# Altium schematic symbol library WCAP-FTXX.SchLib: 109 symbols (part 1 of 3)
Pins are listed as number, name and electrical type; pins without a type are passive.

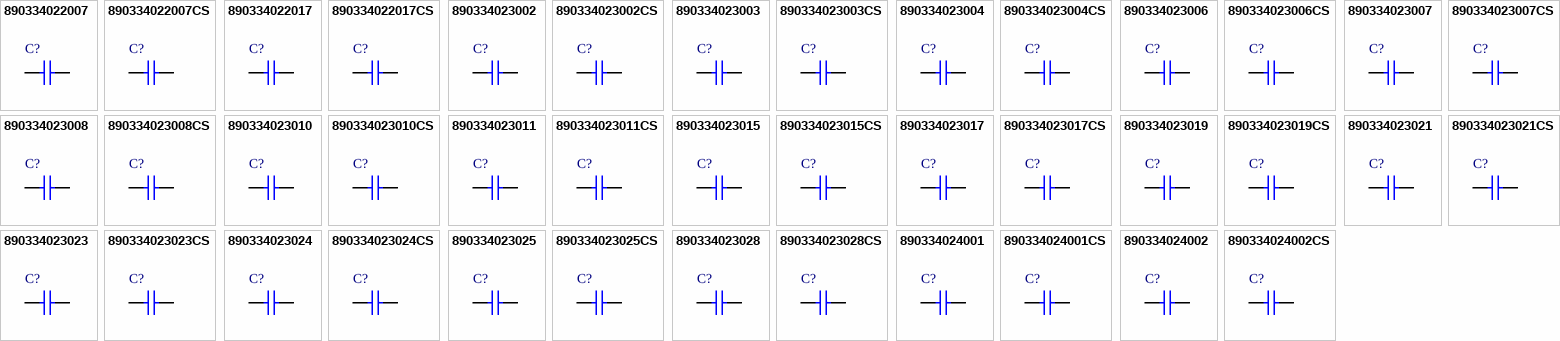
[diagram p0: symbols 890334022007 to 890334024002CS]

## 890334022007
designator C?, comment 15nF  (value not drawn)
WCAP-FTXX Film Capacitor, THT, 11mm x 6mm x 10mm, 15nF, 310V; Manufacturer Part Number: 890334022007; Manufacturer: Wurth Elektronik; Dissipation Factor @1kHz: 0.1%; Insulation Resistance: 30GΩ; Rate of Voltage Rise: 500V/µs; Safety Class: X2; Category: Film Capacitors; Match Code: WCAP-FTXX; ComponentLink1Description: Website Link; ComponentLink1URL: https://www.we-online.com/redexpert/article/890334022007?ad; ComponentLink2Description: Datasheet Link; ComponentLink2URL: https://www.we-online.com/redexpert/spec/890334022007?ad; Mount: Through Hole; Min Operating Temperature: -40°C; Max Operating Temperature: 105°C; Packaging: Bulk; Length: 11mm; Width: 6mm; Height: 10mm; Application: Across the mains; Capacitance: 15nF; Lead Pitch: 7.5mm; Rated Voltage (AC): 310V
footprint WCAP-FTXX_L11W6H10
simulation model 890334022007_15nF
pins: 1, 2

## 890334022007CS
designator C?, comment 15nF  (value not drawn)
WCAP-FTXX Film Capacitor, THT, 11mm x 6mm x 10mm, 15nF, 310V; Manufacturer Part Number: 890334022007CS; Manufacturer: Wurth Elektronik; Dissipation Factor @1kHz: 0.1%; Insulation Resistance: 30GΩ; Rate of Voltage Rise: 500V/µs; Safety Class: X2; Category: Film Capacitors; Match Code: WCAP-FTXX; ComponentLink1Description: Website Link; ComponentLink1URL: https://www.we-online.com/redexpert/article/890334022007CS?ad; ComponentLink2Description: Datasheet Link; ComponentLink2URL: https://www.we-online.com/redexpert/spec/890334022007CS?ad; Mount: Through Hole; Min Operating Temperature: -40°C; Max Operating Temperature: 105°C; Packaging: Bulk; Length: 11mm; Width: 6mm; Height: 10mm; Application: Across the mains; Capacitance: 15nF; Lead Pitch: 7.5mm; Rated Voltage (AC): 310V
footprint WCAP-FTXX_L11W6H10
simulation model 890334022007CS_15nF
pins: 1, 2

## 890334022017
designator C?, comment 68nF  (value not drawn)
WCAP-FTXX Film Capacitor, THT, 10mm x 6mm x 12mm, 68nF, 310V; Manufacturer Part Number: 890334022017; Manufacturer: Wurth Elektronik; Dissipation Factor @1kHz: 0.1%; Insulation Resistance: 30GΩ; Rate of Voltage Rise: 400V/µs; Safety Class: X2; Category: Film Capacitors; Match Code: WCAP-FTXX; ComponentLink1Description: Website Link; ComponentLink1URL: https://www.we-online.com/redexpert/article/890334022017?ad; ComponentLink2Description: Datasheet Link; ComponentLink2URL: https://www.we-online.com/redexpert/spec/890334022017?ad; Mount: Through Hole; Min Operating Temperature: -40°C; Max Operating Temperature: 105°C; Packaging: Bulk; Length: 10mm; Width: 6mm; Height: 12mm; Application: Across the mains; Capacitance: 68nF; Lead Pitch: 7.5mm; Rated Voltage (AC): 310V
footprint WCAP-FTXX_L10W6H12
simulation model 890334022017_68nF
pins: 1, 2

## 890334022017CS
designator C?, comment 68nF  (value not drawn)
WCAP-FTXX Film Capacitor, THT, 10mm x 6mm x 12mm, 68nF, 310V; Manufacturer Part Number: 890334022017CS; Manufacturer: Wurth Elektronik; Dissipation Factor @1kHz: 0.1%; Insulation Resistance: 30GΩ; Rate of Voltage Rise: 400V/µs; Safety Class: X2; Category: Film Capacitors; Match Code: WCAP-FTXX; ComponentLink1Description: Website Link; ComponentLink1URL: https://www.we-online.com/redexpert/article/890334022017CS?ad; ComponentLink2Description: Datasheet Link; ComponentLink2URL: https://www.we-online.com/redexpert/spec/890334022017CS?ad; Mount: Through Hole; Min Operating Temperature: -40°C; Max Operating Temperature: 105°C; Packaging: Bulk; Length: 10mm; Width: 6mm; Height: 12mm; Application: Across the mains; Capacitance: 68nF; Lead Pitch: 7.5mm; Rated Voltage (AC): 310V
footprint WCAP-FTXX_L10W6H12
simulation model 890334022017CS_68nF
pins: 1, 2

## 890334023002
designator C?, comment 5.6nF  (value not drawn)
WCAP-FTXX Film Capacitor, THT, 13mm x 5mm x 10mm, 5.6nF, 310V; Manufacturer Part Number: 890334023002; Manufacturer: Wurth Elektronik; Dissipation Factor @1kHz: 0.1%; Insulation Resistance: 30GΩ; Rate of Voltage Rise: 600V/µs; Safety Class: X2; Category: Film Capacitors; Match Code: WCAP-FTXX; ComponentLink1Description: Website Link; ComponentLink1URL: https://www.we-online.com/redexpert/article/890334023002?ad; ComponentLink2Description: Datasheet Link; ComponentLink2URL: https://www.we-online.com/redexpert/spec/890334023002?ad; Mount: Through Hole; Min Operating Temperature: -40°C; Max Operating Temperature: 105°C; Packaging: Bulk; Length: 13mm; Width: 5mm; Height: 10mm; Application: Across the mains; Capacitance: 5.6nF; Lead Pitch: 10mm; Rated Voltage (AC): 310V
footprint WCAP-FTXX_L13W5H10
simulation model 890334023002_5.6nF
pins: 1, 2

## 890334023002CS
designator C?, comment 5.6nF  (value not drawn)
WCAP-FTXX Film Capacitor, THT, 13mm x 5mm x 10mm, 5.6nF, 310V; Manufacturer Part Number: 890334023002CS; Manufacturer: Wurth Elektronik; Dissipation Factor @1kHz: 0.1%; Insulation Resistance: 30GΩ; Rate of Voltage Rise: 600V/µs; Safety Class: X2; Category: Film Capacitors; Match Code: WCAP-FTXX; ComponentLink1Description: Website Link; ComponentLink1URL: https://www.we-online.com/redexpert/article/890334023002CS?ad; ComponentLink2Description: Datasheet Link; ComponentLink2URL: https://www.we-online.com/redexpert/spec/890334023002CS?ad; Mount: Through Hole; Min Operating Temperature: -40°C; Max Operating Temperature: 105°C; Packaging: Bulk; Length: 13mm; Width: 5mm; Height: 10mm; Application: Across the mains; Capacitance: 5.6nF; Lead Pitch: 10mm; Rated Voltage (AC): 310V
footprint WCAP-FTXX_L13W5H10
simulation model 890334023002CS_5.6nF
pins: 1, 2

## 890334023003
designator C?, comment 6.8nF  (value not drawn)
WCAP-FTXX Film Capacitor, THT, 13mm x 5mm x 10mm, 6.8nF, 310V; Manufacturer Part Number: 890334023003; Manufacturer: Wurth Elektronik; Dissipation Factor @1kHz: 0.1%; Insulation Resistance: 30GΩ; Rate of Voltage Rise: 400V/µs; Safety Class: X2; Category: Film Capacitors; Match Code: WCAP-FTXX; ComponentLink1Description: Website Link; ComponentLink1URL: https://www.we-online.com/redexpert/article/890334023003?ad; ComponentLink2Description: Datasheet Link; ComponentLink2URL: https://www.we-online.com/redexpert/spec/890334023003?ad; Mount: Through Hole; Min Operating Temperature: -40°C; Max Operating Temperature: 105°C; Packaging: Bulk; Length: 13mm; Width: 5mm; Height: 10mm; Application: Across the mains; Capacitance: 6.8nF; Lead Pitch: 10mm; Rated Voltage (AC): 310V
footprint WCAP-FTXX_L13W5H10
simulation model 890334023003_6.8nF
pins: 1, 2

## 890334023003CS
designator C?, comment 6.8nF  (value not drawn)
WCAP-FTXX Film Capacitor, THT, 13mm x 5mm x 10mm, 6.8nF, 310V; Manufacturer Part Number: 890334023003CS; Manufacturer: Wurth Elektronik; Dissipation Factor @1kHz: 0.1%; Insulation Resistance: 30GΩ; Rate of Voltage Rise: 400V/µs; Safety Class: X2; Category: Film Capacitors; Match Code: WCAP-FTXX; ComponentLink1Description: Website Link; ComponentLink1URL: https://www.we-online.com/redexpert/article/890334023003CS?ad; ComponentLink2Description: Datasheet Link; ComponentLink2URL: https://www.we-online.com/redexpert/spec/890334023003CS?ad; Mount: Through Hole; Min Operating Temperature: -40°C; Max Operating Temperature: 105°C; Packaging: Bulk; Length: 13mm; Width: 5mm; Height: 10mm; Application: Across the mains; Capacitance: 6.8nF; Lead Pitch: 10mm; Rated Voltage (AC): 310V
footprint WCAP-FTXX_L13W5H10
simulation model 890334023003CS_6.8nF
pins: 1, 2

## 890334023004
designator C?, comment 8.2nF  (value not drawn)
WCAP-FTXX Film Capacitor, THT, 13mm x 5mm x 10mm, 8.2nF, 310V; Manufacturer Part Number: 890334023004; Manufacturer: Wurth Elektronik; Dissipation Factor @1kHz: 0.1%; Insulation Resistance: 30GΩ; Rate of Voltage Rise: 400V/µs; Safety Class: X2; Category: Film Capacitors; Match Code: WCAP-FTXX; ComponentLink1Description: Website Link; ComponentLink1URL: https://www.we-online.com/redexpert/article/890334023004?ad; ComponentLink2Description: Datasheet Link; ComponentLink2URL: https://www.we-online.com/redexpert/spec/890334023004?ad; Mount: Through Hole; Min Operating Temperature: -40°C; Max Operating Temperature: 105°C; Packaging: Bulk; Length: 13mm; Width: 5mm; Height: 10mm; Application: Across the mains; Capacitance: 8.2nF; Lead Pitch: 10mm; Rated Voltage (AC): 310V
footprint WCAP-FTXX_L13W5H10
simulation model 890334023004_8.2nF
pins: 1, 2

## 890334023004CS
designator C?, comment 8.2nF  (value not drawn)
WCAP-FTXX Film Capacitor, THT, 13mm x 5mm x 10mm, 8.2nF, 310V; Manufacturer Part Number: 890334023004CS; Manufacturer: Wurth Elektronik; Dissipation Factor @1kHz: 0.1%; Insulation Resistance: 30GΩ; Rate of Voltage Rise: 400V/µs; Safety Class: X2; Category: Film Capacitors; Match Code: WCAP-FTXX; ComponentLink1Description: Website Link; ComponentLink1URL: https://www.we-online.com/redexpert/article/890334023004CS?ad; ComponentLink2Description: Datasheet Link; ComponentLink2URL: https://www.we-online.com/redexpert/spec/890334023004CS?ad; Mount: Through Hole; Min Operating Temperature: -40°C; Max Operating Temperature: 105°C; Packaging: Bulk; Length: 13mm; Width: 5mm; Height: 10mm; Application: Across the mains; Capacitance: 8.2nF; Lead Pitch: 10mm; Rated Voltage (AC): 310V
footprint WCAP-FTXX_L13W5H10
simulation model 890334023004CS_8.2nF
pins: 1, 2

## 890334023006
designator C?, comment 10nF  (value not drawn)
WCAP-FTXX Film Capacitor, THT, 13mm x 5mm x 11mm, 10nF, 310V; Manufacturer Part Number: 890334023006; Manufacturer: Wurth Elektronik; Dissipation Factor @1kHz: 0.1%; Insulation Resistance: 30GΩ; Rate of Voltage Rise: 500V/µs; Safety Class: X2; Category: Film Capacitors; Match Code: WCAP-FTXX; ComponentLink1Description: Website Link; ComponentLink1URL: https://www.we-online.com/redexpert/article/890334023006?ad; ComponentLink2Description: Datasheet Link; ComponentLink2URL: https://www.we-online.com/redexpert/spec/890334023006?ad; Mount: Through Hole; Min Operating Temperature: -40°C; Max Operating Temperature: 105°C; Packaging: Bulk; Length: 13mm; Width: 5mm; Height: 11mm; Application: Across the mains; Capacitance: 10nF; Lead Pitch: 10mm; Rated Voltage (AC): 310V
footprint WCAP-FTXX_L13W5H11
simulation model 890334023006_10nF
pins: 1, 2

## 890334023006CS
designator C?, comment 10nF  (value not drawn)
WCAP-FTXX Film Capacitor, THT, 13mm x 5mm x 11mm, 10nF, 310V; Manufacturer Part Number: 890334023006CS; Manufacturer: Wurth Elektronik; Dissipation Factor @1kHz: 0.1%; Insulation Resistance: 30GΩ; Rate of Voltage Rise: 500V/µs; Safety Class: X2; Category: Film Capacitors; Match Code: WCAP-FTXX; ComponentLink1Description: Website Link; ComponentLink1URL: https://www.we-online.com/redexpert/article/890334023006CS?ad; ComponentLink2Description: Datasheet Link; ComponentLink2URL: https://www.we-online.com/redexpert/spec/890334023006CS?ad; Mount: Through Hole; Min Operating Temperature: -40°C; Max Operating Temperature: 105°C; Packaging: Bulk; Length: 13mm; Width: 5mm; Height: 11mm; Application: Across the mains; Capacitance: 10nF; Lead Pitch: 10mm; Rated Voltage (AC): 310V
footprint WCAP-FTXX_L13W5H11
simulation model 890334023006CS_10nF
pins: 1, 2

## 890334023007
designator C?, comment 12nF  (value not drawn)
WCAP-FTXX Film Capacitor, THT, 13mm x 5mm x 11mm, 12nF, 310V; Manufacturer Part Number: 890334023007; Manufacturer: Wurth Elektronik; Dissipation Factor @1kHz: 0.1%; Insulation Resistance: 30GΩ; Rate of Voltage Rise: 300V/µs; Safety Class: X2; Category: Film Capacitors; Match Code: WCAP-FTXX; ComponentLink1Description: Website Link; ComponentLink1URL: https://www.we-online.com/redexpert/article/890334023007?ad; ComponentLink2Description: Datasheet Link; ComponentLink2URL: https://www.we-online.com/redexpert/spec/890334023007?ad; Mount: Through Hole; Min Operating Temperature: -40°C; Max Operating Temperature: 105°C; Packaging: Bulk; Length: 13mm; Width: 5mm; Height: 11mm; Application: Across the mains; Capacitance: 12nF; Lead Pitch: 10mm; Rated Voltage (AC): 310V
footprint WCAP-FTXX_L13W5H11
simulation model 890334023007_12nF
pins: 1, 2

## 890334023007CS
designator C?, comment 12nF  (value not drawn)
WCAP-FTXX Film Capacitor, THT, 13mm x 5mm x 11mm, 12nF, 310V; Manufacturer Part Number: 890334023007CS; Manufacturer: Wurth Elektronik; Dissipation Factor @1kHz: 0.1%; Insulation Resistance: 30GΩ; Rate of Voltage Rise: 300V/µs; Safety Class: X2; Category: Film Capacitors; Match Code: WCAP-FTXX; ComponentLink1Description: Website Link; ComponentLink1URL: https://www.we-online.com/redexpert/article/890334023007CS?ad; ComponentLink2Description: Datasheet Link; ComponentLink2URL: https://www.we-online.com/redexpert/spec/890334023007CS?ad; Mount: Through Hole; Min Operating Temperature: -40°C; Max Operating Temperature: 105°C; Packaging: Bulk; Length: 13mm; Width: 5mm; Height: 11mm; Application: Across the mains; Capacitance: 12nF; Lead Pitch: 10mm; Rated Voltage (AC): 310V
footprint WCAP-FTXX_L13W5H11
simulation model 890334023007CS_12nF
pins: 1, 2

## 890334023008
designator C?, comment 15nF  (value not drawn)
WCAP-FTXX Film Capacitor, THT, 13mm x 4.5mm x 9.5mm, 15nF, 310V; Manufacturer Part Number: 890334023008; Manufacturer: Wurth Elektronik; Dissipation Factor @1kHz: 0.1%; Insulation Resistance: 30GΩ; Rate of Voltage Rise: 400V/µs; Safety Class: X2; Category: Film Capacitors; Match Code: WCAP-FTXX; ComponentLink1Description: Website Link; ComponentLink1URL: https://www.we-online.com/redexpert/article/890334023008?ad; ComponentLink2Description: Datasheet Link; ComponentLink2URL: https://www.we-online.com/redexpert/spec/890334023008?ad; Mount: Through Hole; Min Operating Temperature: -40°C; Max Operating Temperature: 105°C; Packaging: Bulk; Length: 13mm; Width: 4.5mm; Height: 9.5mm; Application: Across the mains; Capacitance: 15nF; Lead Pitch: 10mm; Rated Voltage (AC): 310V
footprint WCAP-FTXX_L13W4.5H9.5
simulation model 890334023008_15nF
pins: 1, 2

## 890334023008CS
designator C?, comment 15nF  (value not drawn)
WCAP-FTXX Film Capacitor, THT, 13mm x 4.5mm x 9.5mm, 15nF, 310V; Manufacturer Part Number: 890334023008CS; Manufacturer: Wurth Elektronik; Dissipation Factor @1kHz: 0.1%; Insulation Resistance: 30GΩ; Rate of Voltage Rise: 400V/µs; Safety Class: X2; Category: Film Capacitors; Match Code: WCAP-FTXX; ComponentLink1Description: Website Link; ComponentLink1URL: https://www.we-online.com/redexpert/article/890334023008CS?ad; ComponentLink2Description: Datasheet Link; ComponentLink2URL: https://www.we-online.com/redexpert/spec/890334023008CS?ad; Mount: Through Hole; Min Operating Temperature: -40°C; Max Operating Temperature: 105°C; Packaging: Bulk; Length: 13mm; Width: 4.5mm; Height: 9.5mm; Application: Across the mains; Capacitance: 15nF; Lead Pitch: 10mm; Rated Voltage (AC): 310V
footprint WCAP-FTXX_L13W4.5H9.5
simulation model 890334023008CS_15nF
pins: 1, 2

## 890334023010
designator C?, comment 18nF  (value not drawn)
WCAP-FTXX Film Capacitor, THT, 13mm x 5mm x 11mm, 18nF, 310V; Manufacturer Part Number: 890334023010; Manufacturer: Wurth Elektronik; Dissipation Factor @1kHz: 0.1%; Insulation Resistance: 30GΩ; Rate of Voltage Rise: 400V/µs; Safety Class: X2; Category: Film Capacitors; Match Code: WCAP-FTXX; ComponentLink1Description: Website Link; ComponentLink1URL: https://www.we-online.com/redexpert/article/890334023010?ad; ComponentLink2Description: Datasheet Link; ComponentLink2URL: https://www.we-online.com/redexpert/spec/890334023010?ad; Mount: Through Hole; Min Operating Temperature: -40°C; Max Operating Temperature: 105°C; Packaging: Bulk; Length: 13mm; Width: 5mm; Height: 11mm; Application: Across the mains; Capacitance: 18nF; Lead Pitch: 10mm; Rated Voltage (AC): 310V
footprint WCAP-FTXX_L13W5H11
simulation model 890334023010_18nF
pins: 1, 2

## 890334023010CS
designator C?, comment 18nF  (value not drawn)
WCAP-FTXX Film Capacitor, THT, 13mm x 5mm x 11mm, 18nF, 310V; Manufacturer Part Number: 890334023010CS; Manufacturer: Wurth Elektronik; Dissipation Factor @1kHz: 0.1%; Insulation Resistance: 30GΩ; Rate of Voltage Rise: 400V/µs; Safety Class: X2; Category: Film Capacitors; Match Code: WCAP-FTXX; ComponentLink1Description: Website Link; ComponentLink1URL: https://www.we-online.com/redexpert/article/890334023010CS?ad; ComponentLink2Description: Datasheet Link; ComponentLink2URL: https://www.we-online.com/redexpert/spec/890334023010CS?ad; Mount: Through Hole; Min Operating Temperature: -40°C; Max Operating Temperature: 105°C; Packaging: Bulk; Length: 13mm; Width: 5mm; Height: 11mm; Application: Across the mains; Capacitance: 18nF; Lead Pitch: 10mm; Rated Voltage (AC): 310V
footprint WCAP-FTXX_L13W5H11
simulation model 890334023010CS_18nF
pins: 1, 2

## 890334023011
designator C?, comment 22nF  (value not drawn)
WCAP-FTXX Film Capacitor, THT, 13mm x 4.5mm x 9.5mm, 22nF, 310V; Manufacturer Part Number: 890334023011; Manufacturer: Wurth Elektronik; Dissipation Factor @1kHz: 0.1%; Insulation Resistance: 30GΩ; Rate of Voltage Rise: 400V/µs; Safety Class: X2; Category: Film Capacitors; Match Code: WCAP-FTXX; ComponentLink1Description: Website Link; ComponentLink1URL: https://www.we-online.com/redexpert/article/890334023011?ad; ComponentLink2Description: Datasheet Link; ComponentLink2URL: https://www.we-online.com/redexpert/spec/890334023011?ad; Mount: Through Hole; Min Operating Temperature: -40°C; Max Operating Temperature: 105°C; Packaging: Bulk; Length: 13mm; Width: 4.5mm; Height: 9.5mm; Application: Across the mains; Capacitance: 22nF; Lead Pitch: 10mm; Rated Voltage (AC): 310V
footprint WCAP-FTXX_L13W4.5H9.5
simulation model 890334023011_22nF
pins: 1, 2

## 890334023011CS
designator C?, comment 22nF  (value not drawn)
WCAP-FTXX Film Capacitor, THT, 13mm x 4.5mm x 9.5mm, 22nF, 310V; Manufacturer Part Number: 890334023011CS; Manufacturer: Wurth Elektronik; Dissipation Factor @1kHz: 0.1%; Insulation Resistance: 30GΩ; Rate of Voltage Rise: 400V/µs; Safety Class: X2; Category: Film Capacitors; Match Code: WCAP-FTXX; ComponentLink1Description: Website Link; ComponentLink1URL: https://www.we-online.com/redexpert/article/890334023011CS?ad; ComponentLink2Description: Datasheet Link; ComponentLink2URL: https://www.we-online.com/redexpert/spec/890334023011CS?ad; Mount: Through Hole; Min Operating Temperature: -40°C; Max Operating Temperature: 105°C; Packaging: Bulk; Length: 13mm; Width: 4.5mm; Height: 9.5mm; Application: Across the mains; Capacitance: 22nF; Lead Pitch: 10mm; Rated Voltage (AC): 310V
footprint WCAP-FTXX_L13W4.5H9.5
simulation model 890334023011CS_22nF
pins: 1, 2

## 890334023015
designator C?, comment 47nF  (value not drawn)
WCAP-FTXX Film Capacitor, THT, 13mm x 4.5mm x 9.5mm, 47nF, 310V; Manufacturer Part Number: 890334023015; Manufacturer: Wurth Elektronik; Dissipation Factor @1kHz: 0.1%; Insulation Resistance: 30GΩ; Rate of Voltage Rise: 300V/µs; Safety Class: X2; Category: Film Capacitors; Match Code: WCAP-FTXX; ComponentLink1Description: Website Link; ComponentLink1URL: https://www.we-online.com/redexpert/article/890334023015?ad; ComponentLink2Description: Datasheet Link; ComponentLink2URL: https://www.we-online.com/redexpert/spec/890334023015?ad; Mount: Through Hole; Min Operating Temperature: -40°C; Max Operating Temperature: 105°C; Packaging: Bulk; Length: 13mm; Width: 4.5mm; Height: 9.5mm; Application: Across the mains; Capacitance: 47nF; Lead Pitch: 10mm; Rated Voltage (AC): 310V
footprint WCAP-FTXX_L13W4.5H9.5
simulation model 890334023015_47nF
pins: 1, 2

## 890334023015CS
designator C?, comment 47nF  (value not drawn)
WCAP-FTXX Film Capacitor, THT, 13mm x 4.5mm x 9.5mm, 47nF, 310V; Manufacturer Part Number: 890334023015CS; Manufacturer: Wurth Elektronik; Dissipation Factor @1kHz: 0.1%; Insulation Resistance: 30GΩ; Rate of Voltage Rise: 300V/µs; Safety Class: X2; Category: Film Capacitors; Match Code: WCAP-FTXX; ComponentLink1Description: Website Link; ComponentLink1URL: https://www.we-online.com/redexpert/article/890334023015CS?ad; ComponentLink2Description: Datasheet Link; ComponentLink2URL: https://www.we-online.com/redexpert/spec/890334023015CS?ad; Mount: Through Hole; Min Operating Temperature: -40°C; Max Operating Temperature: 105°C; Packaging: Bulk; Length: 13mm; Width: 4.5mm; Height: 9.5mm; Application: Across the mains; Capacitance: 47nF; Lead Pitch: 10mm; Rated Voltage (AC): 310V
footprint WCAP-FTXX_L13W4.5H9.5
simulation model 890334023015CS_47nF
pins: 1, 2

## 890334023017
designator C?, comment 56nF  (value not drawn)
WCAP-FTXX Film Capacitor, THT, 13mm x 5mm x 10mm, 56nF, 310V; Manufacturer Part Number: 890334023017; Manufacturer: Wurth Elektronik; Dissipation Factor @1kHz: 0.1%; Insulation Resistance: 30GΩ; Rate of Voltage Rise: 300V/µs; Safety Class: X2; Category: Film Capacitors; Match Code: WCAP-FTXX; ComponentLink1Description: Website Link; ComponentLink1URL: https://www.we-online.com/redexpert/article/890334023017?ad; ComponentLink2Description: Datasheet Link; ComponentLink2URL: https://www.we-online.com/redexpert/spec/890334023017?ad; Mount: Through Hole; Min Operating Temperature: -40°C; Max Operating Temperature: 105°C; Packaging: Bulk; Length: 13mm; Width: 5mm; Height: 10mm; Application: Across the mains; Capacitance: 56nF; Lead Pitch: 10mm; Rated Voltage (AC): 310V
footprint WCAP-FTXX_L13W5H10
simulation model 890334023017_56nF
pins: 1, 2

## 890334023017CS
designator C?, comment 56nF  (value not drawn)
WCAP-FTXX Film Capacitor, THT, 13mm x 5mm x 10mm, 56nF, 310V; Manufacturer Part Number: 890334023017CS; Manufacturer: Wurth Elektronik; Dissipation Factor @1kHz: 0.1%; Insulation Resistance: 30GΩ; Rate of Voltage Rise: 300V/µs; Safety Class: X2; Category: Film Capacitors; Match Code: WCAP-FTXX; ComponentLink1Description: Website Link; ComponentLink1URL: https://www.we-online.com/redexpert/article/890334023017CS?ad; ComponentLink2Description: Datasheet Link; ComponentLink2URL: https://www.we-online.com/redexpert/spec/890334023017CS?ad; Mount: Through Hole; Min Operating Temperature: -40°C; Max Operating Temperature: 105°C; Packaging: Bulk; Length: 13mm; Width: 5mm; Height: 10mm; Application: Across the mains; Capacitance: 56nF; Lead Pitch: 10mm; Rated Voltage (AC): 310V
footprint WCAP-FTXX_L13W5H10
simulation model 890334023017CS_56nF
pins: 1, 2

## 890334023019
designator C?, comment 68nF  (value not drawn)
WCAP-FTXX Film Capacitor, THT, 13mm x 7mm x 13mm, 68nF, 310V; Manufacturer Part Number: 890334023019; Manufacturer: Wurth Elektronik; Dissipation Factor @1kHz: 0.1%; Insulation Resistance: 30GΩ; Rate of Voltage Rise: 400V/µs; Safety Class: X2; Category: Film Capacitors; Match Code: WCAP-FTXX; ComponentLink1Description: Website Link; ComponentLink1URL: https://www.we-online.com/redexpert/article/890334023019?ad; ComponentLink2Description: Datasheet Link; ComponentLink2URL: https://www.we-online.com/redexpert/spec/890334023019?ad; Mount: Through Hole; Min Operating Temperature: -40°C; Max Operating Temperature: 105°C; Packaging: Bulk; Length: 13mm; Width: 7mm; Height: 13mm; Application: Across the mains; Capacitance: 68nF; Lead Pitch: 10mm; Rated Voltage (AC): 310V
footprint WCAP-FTXX_L13W7H13
simulation model 890334023019_68nF
pins: 1, 2

## 890334023019CS
designator C?, comment 68nF  (value not drawn)
WCAP-FTXX Film Capacitor, THT, 13mm x 7mm x 13mm, 68nF, 310V; Manufacturer Part Number: 890334023019CS; Manufacturer: Wurth Elektronik; Dissipation Factor @1kHz: 0.1%; Insulation Resistance: 30GΩ; Rate of Voltage Rise: 400V/µs; Safety Class: X2; Category: Film Capacitors; Match Code: WCAP-FTXX; ComponentLink1Description: Website Link; ComponentLink1URL: https://www.we-online.com/redexpert/article/890334023019CS?ad; ComponentLink2Description: Datasheet Link; ComponentLink2URL: https://www.we-online.com/redexpert/spec/890334023019CS?ad; Mount: Through Hole; Min Operating Temperature: -40°C; Max Operating Temperature: 105°C; Packaging: Bulk; Length: 13mm; Width: 7mm; Height: 13mm; Application: Across the mains; Capacitance: 68nF; Lead Pitch: 10mm; Rated Voltage (AC): 310V
footprint WCAP-FTXX_L13W7H13
simulation model 890334023019CS_68nF
pins: 1, 2

## 890334023021
designator C?, comment 82nF  (value not drawn)
WCAP-FTXX Film Capacitor, THT, 13mm x 7mm x 13mm, 82nF, 310V; Manufacturer Part Number: 890334023021; Manufacturer: Wurth Elektronik; Dissipation Factor @1kHz: 0.1%; Insulation Resistance: 30GΩ; Rate of Voltage Rise: 400V/µs; Safety Class: X2; Category: Film Capacitors; Match Code: WCAP-FTXX; ComponentLink1Description: Website Link; ComponentLink1URL: https://www.we-online.com/redexpert/article/890334023021?ad; ComponentLink2Description: Datasheet Link; ComponentLink2URL: https://www.we-online.com/redexpert/spec/890334023021?ad; Mount: Through Hole; Min Operating Temperature: -40°C; Max Operating Temperature: 105°C; Packaging: Bulk; Length: 13mm; Width: 7mm; Height: 13mm; Application: Across the mains; Capacitance: 82nF; Lead Pitch: 10mm; Rated Voltage (AC): 310V
footprint WCAP-FTXX_L13W7H13
simulation model 890334023021_82nF
pins: 1, 2

## 890334023021CS
designator C?, comment 82nF  (value not drawn)
WCAP-FTXX Film Capacitor, THT, 13mm x 7mm x 13mm, 82nF, 310V; Manufacturer Part Number: 890334023021CS; Manufacturer: Wurth Elektronik; Dissipation Factor @1kHz: 0.1%; Insulation Resistance: 30GΩ; Rate of Voltage Rise: 400V/µs; Safety Class: X2; Category: Film Capacitors; Match Code: WCAP-FTXX; ComponentLink1Description: Website Link; ComponentLink1URL: https://www.we-online.com/redexpert/article/890334023021CS?ad; ComponentLink2Description: Datasheet Link; ComponentLink2URL: https://www.we-online.com/redexpert/spec/890334023021CS?ad; Mount: Through Hole; Min Operating Temperature: -40°C; Max Operating Temperature: 105°C; Packaging: Bulk; Length: 13mm; Width: 7mm; Height: 13mm; Application: Across the mains; Capacitance: 82nF; Lead Pitch: 10mm; Rated Voltage (AC): 310V
footprint WCAP-FTXX_L13W7H13
simulation model 890334023021CS_82nF
pins: 1, 2

## 890334023023
designator C?, comment 100nF  (value not drawn)
WCAP-FTXX Film Capacitor, THT, 13mm x 7mm x 13mm, 100nF, 310V; Manufacturer Part Number: 890334023023; Manufacturer: Wurth Elektronik; Dissipation Factor @1kHz: 0.1%; Insulation Resistance: 30GΩ; Rate of Voltage Rise: 300V/µs; Safety Class: X2; Category: Film Capacitors; Match Code: WCAP-FTXX; ComponentLink1Description: Website Link; ComponentLink1URL: https://www.we-online.com/redexpert/article/890334023023?ad; ComponentLink2Description: Datasheet Link; ComponentLink2URL: https://www.we-online.com/redexpert/spec/890334023023?ad; Mount: Through Hole; Min Operating Temperature: -40°C; Max Operating Temperature: 105°C; Packaging: Bulk; Length: 13mm; Width: 7mm; Height: 13mm; Application: Across the mains; Capacitance: 100nF; Lead Pitch: 10mm; Rated Voltage (AC): 310V
footprint WCAP-FTXX_L13W7H13
simulation model 890334023023_100nF
pins: 1, 2

## 890334023023CS
designator C?, comment 100nF  (value not drawn)
WCAP-FTXX Film Capacitor, THT, 13mm x 7mm x 13mm, 100nF, 310V; Manufacturer Part Number: 890334023023CS; Manufacturer: Wurth Elektronik; Dissipation Factor @1kHz: 0.1%; Insulation Resistance: 30GΩ; Rate of Voltage Rise: 300V/µs; Safety Class: X2; Category: Film Capacitors; Match Code: WCAP-FTXX; ComponentLink1Description: Website Link; ComponentLink1URL: https://www.we-online.com/redexpert/article/890334023023CS?ad; ComponentLink2Description: Datasheet Link; ComponentLink2URL: https://www.we-online.com/redexpert/spec/890334023023CS?ad; Mount: Through Hole; Min Operating Temperature: -40°C; Max Operating Temperature: 105°C; Packaging: Bulk; Length: 13mm; Width: 7mm; Height: 13mm; Application: Across the mains; Capacitance: 100nF; Lead Pitch: 10mm; Rated Voltage (AC): 310V
footprint WCAP-FTXX_L13W7H13
simulation model 890334023023CS_100nF
pins: 1, 2

## 890334023024
designator C?, comment 120nF  (value not drawn)
WCAP-FTXX Film Capacitor, THT, 13mm x 7mm x 13mm, 120nF, 310V; Manufacturer Part Number: 890334023024; Manufacturer: Wurth Elektronik; Dissipation Factor @1kHz: 0.1%; Insulation Resistance: 30GΩ; Rate of Voltage Rise: 400V/µs; Safety Class: X2; Category: Film Capacitors; Match Code: WCAP-FTXX; ComponentLink1Description: Website Link; ComponentLink1URL: https://www.we-online.com/redexpert/article/890334023024?ad; ComponentLink2Description: Datasheet Link; ComponentLink2URL: https://www.we-online.com/redexpert/spec/890334023024?ad; Mount: Through Hole; Min Operating Temperature: -40°C; Max Operating Temperature: 105°C; Packaging: Bulk; Length: 13mm; Width: 7mm; Height: 13mm; Application: Across the mains; Capacitance: 120nF; Lead Pitch: 10mm; Rated Voltage (AC): 310V
footprint WCAP-FTXX_L13W7H13
simulation model 890334023024_120nF
pins: 1, 2

## 890334023024CS
designator C?, comment 120nF  (value not drawn)
WCAP-FTXX Film Capacitor, THT, 13mm x 7mm x 13mm, 120nF, 310V; Manufacturer Part Number: 890334023024CS; Manufacturer: Wurth Elektronik; Dissipation Factor @1kHz: 0.1%; Insulation Resistance: 30GΩ; Rate of Voltage Rise: 400V/µs; Safety Class: X2; Category: Film Capacitors; Match Code: WCAP-FTXX; ComponentLink1Description: Website Link; ComponentLink1URL: https://www.we-online.com/redexpert/article/890334023024CS?ad; ComponentLink2Description: Datasheet Link; ComponentLink2URL: https://www.we-online.com/redexpert/spec/890334023024CS?ad; Mount: Through Hole; Min Operating Temperature: -40°C; Max Operating Temperature: 105°C; Packaging: Bulk; Length: 13mm; Width: 7mm; Height: 13mm; Application: Across the mains; Capacitance: 120nF; Lead Pitch: 10mm; Rated Voltage (AC): 310V
footprint WCAP-FTXX_L13W7H13
simulation model 890334023024CS_120nF
pins: 1, 2

## 890334023025
designator C?, comment 150nF  (value not drawn)
WCAP-FTXX Film Capacitor, THT, 13mm x 7mm x 12mm, 150nF, 310V; Manufacturer Part Number: 890334023025; Manufacturer: Wurth Elektronik; Dissipation Factor @1kHz: 0.1%; Insulation Resistance: 30GΩ; Rate of Voltage Rise: 300V/µs; Safety Class: X2; Category: Film Capacitors; Match Code: WCAP-FTXX; ComponentLink1Description: Website Link; ComponentLink1URL: https://www.we-online.com/redexpert/article/890334023025?ad; ComponentLink2Description: Datasheet Link; ComponentLink2URL: https://www.we-online.com/redexpert/spec/890334023025?ad; Mount: Through Hole; Min Operating Temperature: -40°C; Max Operating Temperature: 105°C; Packaging: Bulk; Length: 13mm; Width: 7mm; Height: 12mm; Application: Across the mains; Capacitance: 150nF; Lead Pitch: 10mm; Rated Voltage (AC): 310V
footprint WCAP-FTXX_L13W7H12
simulation model 890334023025_150nF
pins: 1, 2

## 890334023025CS
designator C?, comment 150nF  (value not drawn)
WCAP-FTXX Film Capacitor, THT, 13mm x 7mm x 12mm, 150nF, 310V; Manufacturer Part Number: 890334023025CS; Manufacturer: Wurth Elektronik; Dissipation Factor @1kHz: 0.1%; Insulation Resistance: 30GΩ; Rate of Voltage Rise: 300V/µs; Safety Class: X2; Category: Film Capacitors; Match Code: WCAP-FTXX; ComponentLink1Description: Website Link; ComponentLink1URL: https://www.we-online.com/redexpert/article/890334023025CS?ad; ComponentLink2Description: Datasheet Link; ComponentLink2URL: https://www.we-online.com/redexpert/spec/890334023025CS?ad; Mount: Through Hole; Min Operating Temperature: -40°C; Max Operating Temperature: 105°C; Packaging: Bulk; Length: 13mm; Width: 7mm; Height: 12mm; Application: Across the mains; Capacitance: 150nF; Lead Pitch: 10mm; Rated Voltage (AC): 310V
footprint WCAP-FTXX_L13W7H12
simulation model 890334023025CS_150nF
pins: 1, 2

## 890334023028
designator C?, comment 220nF  (value not drawn)
WCAP-FTXX Film Capacitor, THT, 13mm x 8mm x 14mm, 220nF, 310V; Manufacturer Part Number: 890334023028; Manufacturer: Wurth Elektronik; Dissipation Factor @1kHz: 0.1%; Insulation Resistance: 30GΩ; Rate of Voltage Rise: 300V/µs; Safety Class: X2; Category: Film Capacitors; Match Code: WCAP-FTXX; ComponentLink1Description: Website Link; ComponentLink1URL: https://www.we-online.com/redexpert/article/890334023028?ad; ComponentLink2Description: Datasheet Link; ComponentLink2URL: https://www.we-online.com/redexpert/spec/890334023028?ad; Mount: Through Hole; Min Operating Temperature: -40°C; Max Operating Temperature: 105°C; Packaging: Bulk; Length: 13mm; Width: 8mm; Height: 14mm; Application: Across the mains; Capacitance: 220nF; Lead Pitch: 10mm; Rated Voltage (AC): 310V
footprint WCAP-FTXX_L13W8H14
simulation model 890334023028_220nF
pins: 1, 2

## 890334023028CS
designator C?, comment 220nF  (value not drawn)
WCAP-FTXX Film Capacitor, THT, 13mm x 8mm x 14mm, 220nF, 310V; Manufacturer Part Number: 890334023028CS; Manufacturer: Wurth Elektronik; Dissipation Factor @1kHz: 0.1%; Insulation Resistance: 30GΩ; Rate of Voltage Rise: 300V/µs; Safety Class: X2; Category: Film Capacitors; Match Code: WCAP-FTXX; ComponentLink1Description: Website Link; ComponentLink1URL: https://www.we-online.com/redexpert/article/890334023028CS?ad; ComponentLink2Description: Datasheet Link; ComponentLink2URL: https://www.we-online.com/redexpert/spec/890334023028CS?ad; Mount: Through Hole; Min Operating Temperature: -40°C; Max Operating Temperature: 105°C; Packaging: Bulk; Length: 13mm; Width: 8mm; Height: 14mm; Application: Across the mains; Capacitance: 220nF; Lead Pitch: 10mm; Rated Voltage (AC): 310V
footprint WCAP-FTXX_L13W8H14
simulation model 890334023028CS_220nF
pins: 1, 2

## 890334024001
designator C?, comment 150nF  (value not drawn)
WCAP-FTXX Film Capacitor, THT, 15mm x 6mm x 11.5mm, 150nF, 310V; Manufacturer Part Number: 890334024001; Manufacturer: Wurth Elektronik; Dissipation Factor @1kHz: 0.1%; Insulation Resistance: 30GΩ; Rate of Voltage Rise: 210V/µs; Safety Class: X2; Category: Film Capacitors; Match Code: WCAP-FTXX; ComponentLink1Description: Website Link; ComponentLink1URL: https://www.we-online.com/redexpert/article/890334024001?ad; ComponentLink2Description: Datasheet Link; ComponentLink2URL: https://www.we-online.com/redexpert/spec/890334024001?ad; Mount: Through Hole; Min Operating Temperature: -40°C; Max Operating Temperature: 105°C; Packaging: Bulk; Length: 15mm; Width: 6mm; Height: 11.5mm; Application: Across the mains; Capacitance: 150nF; Lead Pitch: 12.5mm; Rated Voltage (AC): 310V
footprint WCAP-FTXX_L15W6H11.5
simulation model 890334024001_150nF
pins: 1, 2

## 890334024001CS
designator C?, comment 150nF  (value not drawn)
WCAP-FTXX Film Capacitor, THT, 15mm x 6mm x 11.5mm, 150nF, 310V; Manufacturer Part Number: 890334024001CS; Manufacturer: Wurth Elektronik; Dissipation Factor @1kHz: 0.1%; Insulation Resistance: 30GΩ; Rate of Voltage Rise: 210V/µs; Safety Class: X2; Category: Film Capacitors; Match Code: WCAP-FTXX; ComponentLink1Description: Website Link; ComponentLink1URL: https://www.we-online.com/redexpert/article/890334024001CS?ad; ComponentLink2Description: Datasheet Link; ComponentLink2URL: https://www.we-online.com/redexpert/spec/890334024001CS?ad; Mount: Through Hole; Min Operating Temperature: -40°C; Max Operating Temperature: 105°C; Packaging: Bulk; Length: 15mm; Width: 6mm; Height: 11.5mm; Application: Across the mains; Capacitance: 150nF; Lead Pitch: 12.5mm; Rated Voltage (AC): 310V
footprint WCAP-FTXX_L15W6H11.5
simulation model 890334024001CS_150nF
pins: 1, 2

## 890334024002
designator C?, comment 220nF  (value not drawn)
WCAP-FTXX Film Capacitor, THT, 15mm x 7mm x 12.5mm, 220nF, 310V; Manufacturer Part Number: 890334024002; Manufacturer: Wurth Elektronik; Dissipation Factor @1kHz: 0.1%; Insulation Resistance: 30GΩ; Rate of Voltage Rise: 240V/µs; Safety Class: X2; Category: Film Capacitors; Match Code: WCAP-FTXX; ComponentLink1Description: Website Link; ComponentLink1URL: https://www.we-online.com/redexpert/article/890334024002?ad; ComponentLink2Description: Datasheet Link; ComponentLink2URL: https://www.we-online.com/redexpert/spec/890334024002?ad; Mount: Through Hole; Min Operating Temperature: -40°C; Max Operating Temperature: 105°C; Packaging: Bulk; Length: 15mm; Width: 7mm; Height: 12.5mm; Application: Across the mains; Capacitance: 220nF; Lead Pitch: 12.5mm; Rated Voltage (AC): 310V
footprint WCAP-FTXX_L15W7H12.5
simulation model 890334024002_220nF
pins: 1, 2

## 890334024002CS
designator C?, comment 220nF  (value not drawn)
WCAP-FTXX Film Capacitor, THT, 15mm x 7mm x 12.5mm, 220nF, 310V; Manufacturer Part Number: 890334024002CS; Manufacturer: Wurth Elektronik; Dissipation Factor @1kHz: 0.1%; Insulation Resistance: 30GΩ; Rate of Voltage Rise: 240V/µs; Safety Class: X2; Category: Film Capacitors; Match Code: WCAP-FTXX; ComponentLink1Description: Website Link; ComponentLink1URL: https://www.we-online.com/redexpert/article/890334024002CS?ad; ComponentLink2Description: Datasheet Link; ComponentLink2URL: https://www.we-online.com/redexpert/spec/890334024002CS?ad; Mount: Through Hole; Min Operating Temperature: -40°C; Max Operating Temperature: 105°C; Packaging: Bulk; Length: 15mm; Width: 7mm; Height: 12.5mm; Application: Across the mains; Capacitance: 220nF; Lead Pitch: 12.5mm; Rated Voltage (AC): 310V
footprint WCAP-FTXX_L15W7H12.5
simulation model 890334024002CS_220nF
pins: 1, 2

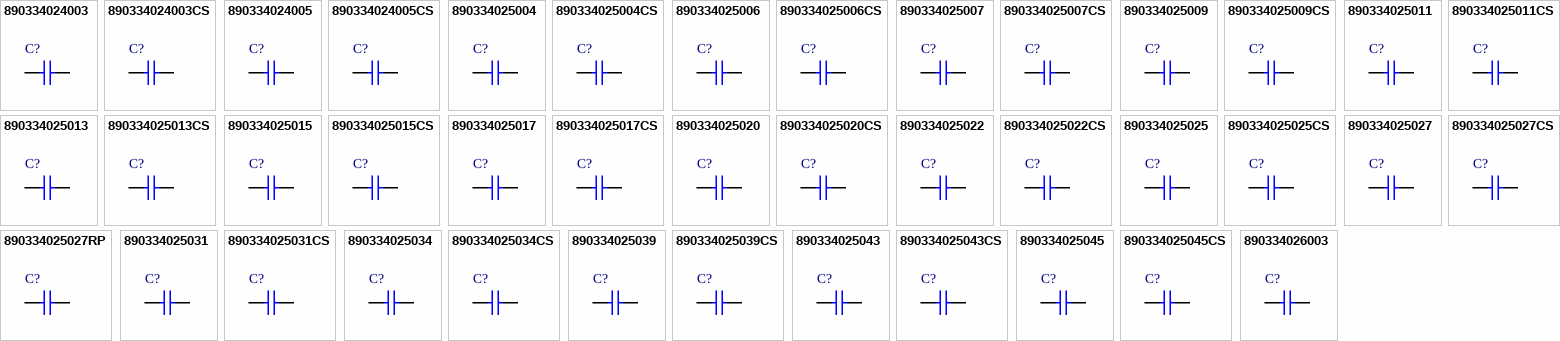
[diagram p1: symbols 890334024003 to 890334026003]

## 890334024003
designator C?, comment 330nF  (value not drawn)
WCAP-FTXX Film Capacitor, THT, 15mm x 8.5mm x 14mm, 330nF, 310V; Manufacturer Part Number: 890334024003; Manufacturer: Wurth Elektronik; Dissipation Factor @1kHz: 0.1%; Insulation Resistance: 30GΩ; Rate of Voltage Rise: 260V/µs; Safety Class: X2; Category: Film Capacitors; Match Code: WCAP-FTXX; ComponentLink1Description: Website Link; ComponentLink1URL: https://www.we-online.com/redexpert/article/890334024003?ad; ComponentLink2Description: Datasheet Link; ComponentLink2URL: https://www.we-online.com/redexpert/spec/890334024003?ad; Mount: Through Hole; Min Operating Temperature: -40°C; Max Operating Temperature: 105°C; Packaging: Bulk; Length: 15mm; Width: 8.5mm; Height: 14mm; Application: Across the mains; Capacitance: 330nF; Lead Pitch: 12.5mm; Rated Voltage (AC): 310V
footprint WCAP-FTXX_L15W8.5H14
simulation model 890334024003_330nF
pins: 1, 2

## 890334024003CS
designator C?, comment 330nF  (value not drawn)
WCAP-FTXX Film Capacitor, THT, 15mm x 8.5mm x 14mm, 330nF, 310V; Manufacturer Part Number: 890334024003CS; Manufacturer: Wurth Elektronik; Dissipation Factor @1kHz: 0.1%; Insulation Resistance: 30GΩ; Rate of Voltage Rise: 260V/µs; Safety Class: X2; Category: Film Capacitors; Match Code: WCAP-FTXX; ComponentLink1Description: Website Link; ComponentLink1URL: https://www.we-online.com/redexpert/article/890334024003CS?ad; ComponentLink2Description: Datasheet Link; ComponentLink2URL: https://www.we-online.com/redexpert/spec/890334024003CS?ad; Mount: Through Hole; Min Operating Temperature: -40°C; Max Operating Temperature: 105°C; Packaging: Bulk; Length: 15mm; Width: 8.5mm; Height: 14mm; Application: Across the mains; Capacitance: 330nF; Lead Pitch: 12.5mm; Rated Voltage (AC): 310V
footprint WCAP-FTXX_L15W8.5H14
simulation model 890334024003CS_330nF
pins: 1, 2

## 890334024005
designator C?, comment 470nF  (value not drawn)
WCAP-FTXX Film Capacitor, THT, 15mm x 10mm x 16mm, 470nF, 310V; Manufacturer Part Number: 890334024005; Manufacturer: Wurth Elektronik; Dissipation Factor @1kHz: 0.1%; Insulation Resistance: 21.28GΩ; Rate of Voltage Rise: 280V/µs; Safety Class: X2; Category: Film Capacitors; Match Code: WCAP-FTXX; ComponentLink1Description: Website Link; ComponentLink1URL: https://www.we-online.com/redexpert/article/890334024005?ad; ComponentLink2Description: Datasheet Link; ComponentLink2URL: https://www.we-online.com/redexpert/spec/890334024005?ad; Mount: Through Hole; Min Operating Temperature: -40°C; Max Operating Temperature: 105°C; Packaging: Bulk; Length: 15mm; Width: 10mm; Height: 16mm; Application: Across the mains; Capacitance: 470nF; Lead Pitch: 12.5mm; Rated Voltage (AC): 310V
footprint WCAP-FTXX_L15W10H16
simulation model 890334024005_470nF
pins: 1, 2

## 890334024005CS
designator C?, comment 470nF  (value not drawn)
WCAP-FTXX Film Capacitor, THT, 15mm x 10mm x 16mm, 470nF, 310V; Manufacturer Part Number: 890334024005CS; Manufacturer: Wurth Elektronik; Dissipation Factor @1kHz: 0.1%; Insulation Resistance: 21.28GΩ; Rate of Voltage Rise: 280V/µs; Safety Class: X2; Category: Film Capacitors; Match Code: WCAP-FTXX; ComponentLink1Description: Website Link; ComponentLink1URL: https://www.we-online.com/redexpert/article/890334024005CS?ad; ComponentLink2Description: Datasheet Link; ComponentLink2URL: https://www.we-online.com/redexpert/spec/890334024005CS?ad; Mount: Through Hole; Min Operating Temperature: -40°C; Max Operating Temperature: 105°C; Packaging: Bulk; Length: 15mm; Width: 10mm; Height: 16mm; Application: Across the mains; Capacitance: 470nF; Lead Pitch: 12.5mm; Rated Voltage (AC): 310V
footprint WCAP-FTXX_L15W10H16
simulation model 890334024005CS_470nF
pins: 1, 2

## 890334025004
designator C?, comment 27nF  (value not drawn)
WCAP-FTXX Film Capacitor, THT, 18mm x 5mm x 11mm, 27nF, 310V; Manufacturer Part Number: 890334025004; Manufacturer: Wurth Elektronik; Dissipation Factor @1kHz: 0.1%; Insulation Resistance: 30GΩ; Rate of Voltage Rise: 300V/µs; Safety Class: X2; Category: Film Capacitors; Match Code: WCAP-FTXX; ComponentLink1Description: Website Link; ComponentLink1URL: https://www.we-online.com/redexpert/article/890334025004?ad; ComponentLink2Description: Datasheet Link; ComponentLink2URL: https://www.we-online.com/redexpert/spec/890334025004?ad; Mount: Through Hole; Min Operating Temperature: -40°C; Max Operating Temperature: 105°C; Packaging: Bulk; Length: 18mm; Width: 5mm; Height: 11mm; Application: Across the mains; Capacitance: 27nF; Lead Pitch: 15mm; Rated Voltage (AC): 310V
footprint WCAP-FTXX_L18W5H11
simulation model 890334025004_27nF
pins: 1, 2

## 890334025004CS
designator C?, comment 27nF  (value not drawn)
WCAP-FTXX Film Capacitor, THT, 18mm x 5mm x 11mm, 27nF, 310V; Manufacturer Part Number: 890334025004CS; Manufacturer: Wurth Elektronik; Dissipation Factor @1kHz: 0.1%; Insulation Resistance: 30GΩ; Rate of Voltage Rise: 300V/µs; Safety Class: X2; Category: Film Capacitors; Match Code: WCAP-FTXX; ComponentLink1Description: Website Link; ComponentLink1URL: https://www.we-online.com/redexpert/article/890334025004CS?ad; ComponentLink2Description: Datasheet Link; ComponentLink2URL: https://www.we-online.com/redexpert/spec/890334025004CS?ad; Mount: Through Hole; Min Operating Temperature: -40°C; Max Operating Temperature: 105°C; Packaging: Bulk; Length: 18mm; Width: 5mm; Height: 11mm; Application: Across the mains; Capacitance: 27nF; Lead Pitch: 15mm; Rated Voltage (AC): 310V
footprint WCAP-FTXX_L18W5H11
simulation model 890334025004CS_27nF
pins: 1, 2

## 890334025006
designator C?, comment 33nF  (value not drawn)
WCAP-FTXX Film Capacitor, THT, 18mm x 5mm x 11mm, 33nF, 310V; Manufacturer Part Number: 890334025006; Manufacturer: Wurth Elektronik; Dissipation Factor @1kHz: 0.1%; Insulation Resistance: 30GΩ; Rate of Voltage Rise: 300V/µs; Safety Class: X2; Category: Film Capacitors; Match Code: WCAP-FTXX; ComponentLink1Description: Website Link; ComponentLink1URL: https://www.we-online.com/redexpert/article/890334025006?ad; ComponentLink2Description: Datasheet Link; ComponentLink2URL: https://www.we-online.com/redexpert/spec/890334025006?ad; Mount: Through Hole; Min Operating Temperature: -40°C; Max Operating Temperature: 105°C; Packaging: Bulk; Length: 18mm; Width: 5mm; Height: 11mm; Application: Across the mains; Capacitance: 33nF; Lead Pitch: 15mm; Rated Voltage (AC): 310V
footprint WCAP-FTXX_L18W5H11
simulation model 890334025006_33nF
pins: 1, 2

## 890334025006CS
designator C?, comment 33nF  (value not drawn)
WCAP-FTXX Film Capacitor, THT, 18mm x 5mm x 11mm, 33nF, 310V; Manufacturer Part Number: 890334025006CS; Manufacturer: Wurth Elektronik; Dissipation Factor @1kHz: 0.1%; Insulation Resistance: 30GΩ; Rate of Voltage Rise: 300V/µs; Safety Class: X2; Category: Film Capacitors; Match Code: WCAP-FTXX; ComponentLink1Description: Website Link; ComponentLink1URL: https://www.we-online.com/redexpert/article/890334025006CS?ad; ComponentLink2Description: Datasheet Link; ComponentLink2URL: https://www.we-online.com/redexpert/spec/890334025006CS?ad; Mount: Through Hole; Min Operating Temperature: -40°C; Max Operating Temperature: 105°C; Packaging: Bulk; Length: 18mm; Width: 5mm; Height: 11mm; Application: Across the mains; Capacitance: 33nF; Lead Pitch: 15mm; Rated Voltage (AC): 310V
footprint WCAP-FTXX_L18W5H11
simulation model 890334025006CS_33nF
pins: 1, 2

## 890334025007
designator C?, comment 39nF  (value not drawn)
WCAP-FTXX Film Capacitor, THT, 18mm x 5mm x 11mm, 39nF, 310V; Manufacturer Part Number: 890334025007; Manufacturer: Wurth Elektronik; Dissipation Factor @1kHz: 0.1%; Insulation Resistance: 30GΩ; Rate of Voltage Rise: 300V/µs; Safety Class: X2; Category: Film Capacitors; Match Code: WCAP-FTXX; ComponentLink1Description: Website Link; ComponentLink1URL: https://www.we-online.com/redexpert/article/890334025007?ad; ComponentLink2Description: Datasheet Link; ComponentLink2URL: https://www.we-online.com/redexpert/spec/890334025007?ad; Mount: Through Hole; Min Operating Temperature: -40°C; Max Operating Temperature: 105°C; Packaging: Bulk; Length: 18mm; Width: 5mm; Height: 11mm; Application: Across the mains; Capacitance: 39nF; Lead Pitch: 15mm; Rated Voltage (AC): 310V
footprint WCAP-FTXX_L18W5H11
simulation model 890334025007_39nF
pins: 1, 2

## 890334025007CS
designator C?, comment 39nF  (value not drawn)
WCAP-FTXX Film Capacitor, THT, 18mm x 5mm x 11mm, 39nF, 310V; Manufacturer Part Number: 890334025007CS; Manufacturer: Wurth Elektronik; Dissipation Factor @1kHz: 0.1%; Insulation Resistance: 30GΩ; Rate of Voltage Rise: 300V/µs; Safety Class: X2; Category: Film Capacitors; Match Code: WCAP-FTXX; ComponentLink1Description: Website Link; ComponentLink1URL: https://www.we-online.com/redexpert/article/890334025007CS?ad; ComponentLink2Description: Datasheet Link; ComponentLink2URL: https://www.we-online.com/redexpert/spec/890334025007CS?ad; Mount: Through Hole; Min Operating Temperature: -40°C; Max Operating Temperature: 105°C; Packaging: Bulk; Length: 18mm; Width: 5mm; Height: 11mm; Application: Across the mains; Capacitance: 39nF; Lead Pitch: 15mm; Rated Voltage (AC): 310V
footprint WCAP-FTXX_L18W5H11
simulation model 890334025007CS_39nF
pins: 1, 2

## 890334025009
designator C?, comment 47nF  (value not drawn)
WCAP-FTXX Film Capacitor, THT, 18mm x 5mm x 11mm, 47nF, 310V; Manufacturer Part Number: 890334025009; Manufacturer: Wurth Elektronik; Dissipation Factor @1kHz: 0.1%; Insulation Resistance: 30GΩ; Rate of Voltage Rise: 220V/µs; Safety Class: X2; Category: Film Capacitors; Match Code: WCAP-FTXX; ComponentLink1Description: Website Link; ComponentLink1URL: https://www.we-online.com/redexpert/article/890334025009?ad; ComponentLink2Description: Datasheet Link; ComponentLink2URL: https://www.we-online.com/redexpert/spec/890334025009?ad; Mount: Through Hole; Min Operating Temperature: -40°C; Max Operating Temperature: 105°C; Packaging: Bulk; Length: 18mm; Width: 5mm; Height: 11mm; Application: Across the mains; Capacitance: 47nF; Lead Pitch: 15mm; Rated Voltage (AC): 310V
footprint WCAP-FTXX_L18W5H11
simulation model 890334025009_47nF
pins: 1, 2

## 890334025009CS
designator C?, comment 47nF  (value not drawn)
WCAP-FTXX Film Capacitor, THT, 18mm x 5mm x 11mm, 47nF, 310V; Manufacturer Part Number: 890334025009CS; Manufacturer: Wurth Elektronik; Dissipation Factor @1kHz: 0.1%; Insulation Resistance: 30GΩ; Rate of Voltage Rise: 220V/µs; Safety Class: X2; Category: Film Capacitors; Match Code: WCAP-FTXX; ComponentLink1Description: Website Link; ComponentLink1URL: https://www.we-online.com/redexpert/article/890334025009CS?ad; ComponentLink2Description: Datasheet Link; ComponentLink2URL: https://www.we-online.com/redexpert/spec/890334025009CS?ad; Mount: Through Hole; Min Operating Temperature: -40°C; Max Operating Temperature: 105°C; Packaging: Bulk; Length: 18mm; Width: 5mm; Height: 11mm; Application: Across the mains; Capacitance: 47nF; Lead Pitch: 15mm; Rated Voltage (AC): 310V
footprint WCAP-FTXX_L18W5H11
simulation model 890334025009CS_47nF
pins: 1, 2

## 890334025011
designator C?, comment 56nF  (value not drawn)
WCAP-FTXX Film Capacitor, THT, 18mm x 5mm x 11mm, 56nF, 310V; Manufacturer Part Number: 890334025011; Manufacturer: Wurth Elektronik; Dissipation Factor @1kHz: 0.1%; Insulation Resistance: 30GΩ; Rate of Voltage Rise: 250V/µs; Safety Class: X2; Category: Film Capacitors; Match Code: WCAP-FTXX; ComponentLink1Description: Website Link; ComponentLink1URL: https://www.we-online.com/redexpert/article/890334025011?ad; ComponentLink2Description: Datasheet Link; ComponentLink2URL: https://www.we-online.com/redexpert/spec/890334025011?ad; Mount: Through Hole; Min Operating Temperature: -40°C; Max Operating Temperature: 105°C; Packaging: Bulk; Length: 18mm; Width: 5mm; Height: 11mm; Application: Across the mains; Capacitance: 56nF; Lead Pitch: 15mm; Rated Voltage (AC): 310V
footprint WCAP-FTXX_L18W5H11
simulation model 890334025011_56nF
pins: 1, 2